# EAGLE library part IIS328DQTR (library IIS328DQTR)
Accelerometer Triple ±2g/±4g/±8g 3.3V 24-Pin QFN EP Tray
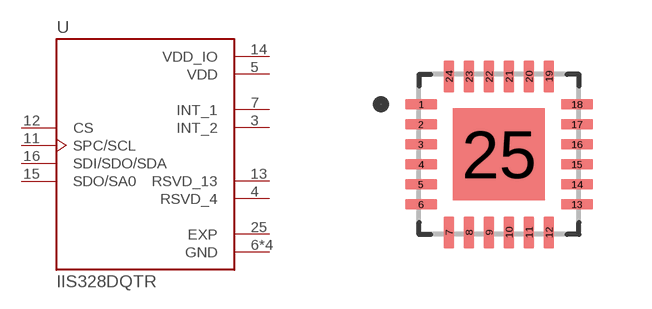
[diagram p0: symbol with the pads of QFN50P400X400X185-25N; footprint QFN50P400X400X185-25N]

Designator prefix U

## IIS328DQTR (A_MAX: 1.85; B_MAX: 0.3; B_MIN: 0.2; B_NOM: 0.25; D2_NOM: 2.3; D_MAX: 4.0; D_MIN: 4.0; D_NOM: 4.0; E2_NOM: 2.3; ENOM: 0.5; E_MAX: 4.0; E_MIN: 4.0; E_NOM: 4.0; L_MAX: 0.45; L_MIN: 0.35; L_NOM: 0.4; MANUFACTURER: ST Microelectronics; MAXIMUM_PACKAGE_HEIGHT: 1.85mm; PARTREV: 3; PIN_COUNT_D: 6.0; PIN_COUNT_E: 6.0; STANDARD: IPC 7351B)  [QFN50P400X400X185-25N]
3  INT_2  out
4  RSVD_4  pas
5  VDD  pwr
6  GND  pwr
7  INT_1  out
8  GND  pwr
9  GND  pwr
10  GND  pwr
11  SPC/SCL  in
12  CS  in
13  RSVD_13  pas
14  VDD_IO  pwr
15  SDO/SA0
16  SDI/SDO/SDA
25  EXP  pas

## Footprint QFN50P400X400X185-25N (pad centres in mm)
smd 0.81 x 0.27: 1 -1.95,1.25; 2 -1.95,0.75; 3 -1.95,0.25; 4 -1.95,-0.25; 5 -1.95,-0.75; 6 -1.95,-1.25; 13 1.95,-1.25; 14 1.95,-0.75; 15 1.95,-0.25; 16 1.95,0.25; 17 1.95,0.75; 18 1.95,1.25
smd 0.27 x 0.81: 7 -1.25,-1.95; 8 -0.75,-1.95; 9 -0.25,-1.95; 10 0.25,-1.95; 11 0.75,-1.95; 12 1.25,-1.95; 19 1.25,1.95; 20 0.75,1.95; 21 0.25,1.95; 22 -0.25,1.95; 23 -0.75,1.95; 24 -1.25,1.95
smd 2.3 x 2.3: 25 0,0